# EAGLE library part LM3658 (library national-semiconductor)
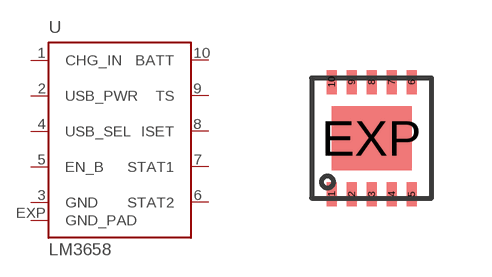
[diagram p0: symbol with the pads of LLP10; footprint LLP10]

Designator prefix U

## LM3658  [LLP10]
1  CHG_IN  pwr
2  USB_PWR  pwr
3  GND  pwr
4  USB_SEL
5  EN_B
6  STAT2
7  STAT1
8  ISET
9  TS
10  BATT  pwr
EXP  GND_PAD  pwr

## Footprint LLP10 (pad centres in mm)
smd 0.25 x 0.6: 1 -1,-1.4; 2 -0.5,-1.4; 3 0,-1.4; 4 0.5,-1.4; 5 1,-1.4; 6 1,1.4; 7 0.5,1.4; 8 0,1.4; 9 -0.5,1.4; 10 -1,1.4
smd 2 x 1.6: EXP 0,0